# EAGLE library part FT2232H (library icnh3)
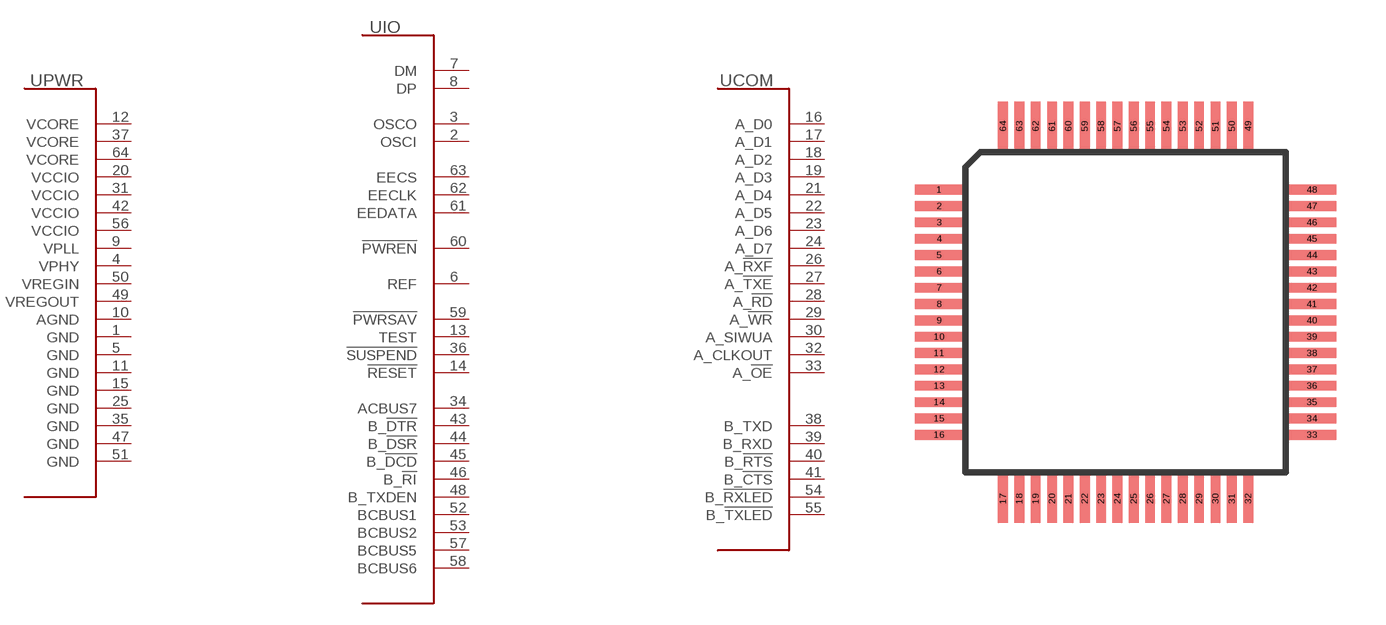
[diagram p7: symbol with the pads of TQFP64; footprint TQFP64]

Designator prefix U; gates PWR=FT_2232H_PWR IO=FT_2232H_IO COM=FT_2232H_COMMS

## FT2232H  [TQFP64]
1  PWR:GND  pwr
2  IO:OSCI
3  IO:OSCO
4  PWR:VPHY  pwr
5  PWR:GND  pwr
6  IO:REF
7  IO:DM
8  IO:DP
9  PWR:VPLL  pwr
10  PWR:AGND  pwr
11  PWR:GND  pwr
12  PWR:VCORE  pwr
13  IO:TEST
14  IO:!RESET
15  PWR:GND  pwr
16  COM:A_D0
17  COM:A_D1
18  COM:A_D2
19  COM:A_D3
20  PWR:VCCIO  pwr
21  COM:A_D4
22  COM:A_D5
23  COM:A_D6
24  COM:A_D7
25  PWR:GND  pwr
26  COM:A_!RXF!
27  COM:A_!TXE!
28  COM:A_!RD!
29  COM:A_!WR!
30  COM:A_SIWUA
31  PWR:VCCIO  pwr
32  COM:A_CLKOUT
33  COM:A_!OE!
34  IO:ACBUS7
35  PWR:GND  pwr
36  IO:!SUSPEND!
37  PWR:VCORE  pwr
38  COM:B_TXD
39  COM:B_RXD
40  COM:B_!RTS!
41  COM:B_!CTS!
42  PWR:VCCIO  pwr
43  IO:B_!DTR!
44  IO:B_!DSR!
45  IO:B_!DCD!
46  IO:B_!RI!
47  PWR:GND  pwr
48  IO:B_TXDEN
49  PWR:VREGOUT  pwr
50  PWR:VREGIN  pwr
51  PWR:GND  pwr
52  IO:BCBUS1
53  IO:BCBUS2
54  COM:B_!RXLED!
55  COM:B_!TXLED!
56  PWR:VCCIO  pwr
57  IO:BCBUS5
58  IO:BCBUS6
59  IO:!PWRSAV!
60  IO:!PWREN!
61  IO:EEDATA
62  IO:EECLK
63  IO:EECS
64  PWR:VCORE  pwr

## Footprint TQFP64 (pad centres in mm)
smd 1.5 x 0.3: 1 -5.7,3.75; 2 -5.7,3.25; 3 -5.7,2.75; 4 -5.7,2.25; 5 -5.7,1.75; 6 -5.7,1.25; 7 -5.7,0.75; 8 -5.7,0.25; 9 -5.7,-0.25; 10 -5.7,-0.75; 11 -5.7,-1.25; 12 -5.7,-1.75; 13 -5.7,-2.25; 14 -5.7,-2.75; 15 -5.7,-3.25; 16 -5.7,-3.75; 33 5.7,-3.75; 34 5.7,-3.25; 35 5.7,-2.75; 36 5.7,-2.25; 37 5.7,-1.75; 38 5.7,-1.25; 39 5.7,-0.75; 40 5.7,-0.25; 41 5.7,0.25; 42 5.7,0.75; 43 5.7,1.25; 44 5.7,1.75; 45 5.7,2.25; 46 5.7,2.75; 47 5.7,3.25; 48 5.7,3.75
smd 0.3 x 1.5: 17 -3.75,-5.7; 18 -3.25,-5.7; 19 -2.75,-5.7; 20 -2.25,-5.7; 21 -1.75,-5.7; 22 -1.25,-5.7; 23 -0.75,-5.7; 24 -0.25,-5.7; 25 0.25,-5.7; 26 0.75,-5.7; 27 1.25,-5.7; 28 1.75,-5.7; 29 2.25,-5.7; 30 2.75,-5.7; 31 3.25,-5.7; 32 3.75,-5.7; 49 3.75,5.7; 50 3.25,5.7; 51 2.75,5.7; 52 2.25,5.7; 53 1.75,5.7; 54 1.25,5.7; 55 0.75,5.7; 56 0.25,5.7; 57 -0.25,5.7; 58 -0.75,5.7; 59 -1.25,5.7; 60 -1.75,5.7; 61 -2.25,5.7; 62 -2.75,5.7; 63 -3.25,5.7; 64 -3.75,5.7